# EAGLE library part LPC812M101 (library nxp-arm)
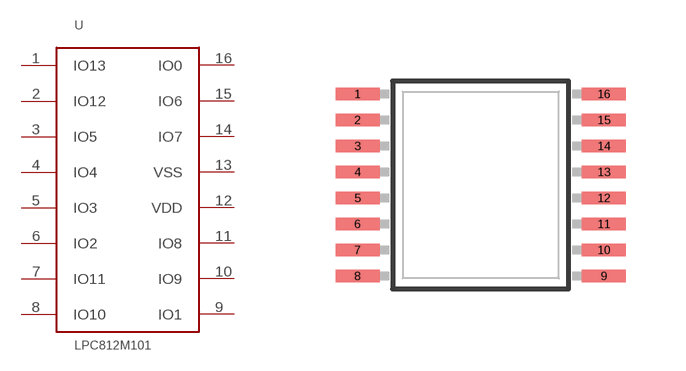
[diagram p19: symbol with the pads of TSSOP16; footprint TSSOP16]

Designator prefix -

## LPC812M1012M101JDH16 (DIGIKEY: 568-10436-5-ND; DIGIKEY1K: .7975; VALUE: LPC812)  [TSSOP16]
1  IO13  pas
2  IO12  pas
3  IO5  pas
4  IO4  pas
5  IO3  pas
6  IO2  pas
7  IO11  pas
8  IO10  pas
9  IO1  pas
10  IO9  pas
11  IO8  pas
12  VDD  pas
13  VSS  pas
14  IO7  pas
15  IO6  pas
16  IO0  pas

## Footprint TSSOP16 (pad centres in mm)
smd 1.1 x 0.31: 1 -3.08,2.275; 2 -3.08,1.625; 3 -3.08,0.975; 4 -3.08,0.325; 5 -3.08,-0.325; 6 -3.08,-0.975; 7 -3.08,-1.625; 8 -3.08,-2.275; 9 3.08,-2.275; 10 3.08,-1.625; 11 3.08,-0.975; 12 3.08,-0.325; 13 3.08,0.325; 14 3.08,0.975; 15 3.08,1.625; 16 3.08,2.275